# Altium schematic symbol library Relay.SchLib: 6 symbols
Pins are listed as number, name and electrical type; pins without a type are passive.

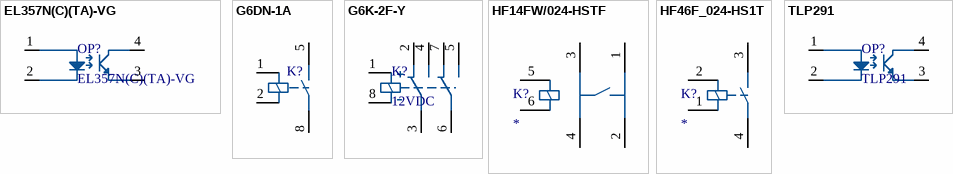
[diagram p0: symbols EL357N(C)(TA)-VG to TLP291]

## EL357N(C)(TA)-VG
designator OP?
No Description Available; Mfr_Name: Everlight; RefDes: RefDes; Type: Type
footprint SOP-4-2.54mm
pins: 1 6, 2 7, 3 8, 4 9

## G6DN-1A
designator K?, comment G6DN-1A-SL-12VDC  (value not drawn)
Generic Relay; Type: G6DN-1A-SL-12VDC
footprint G6DN-1A-SL
pins: 1 COIL+, 2 COIL-, 5 CONT, 8 COM

## G6K-2F-Y
designator K?, comment 12VDC
Signal Relay; Voltage: 12VDC
footprint G6K-2F-Y
pins: 1 COIL+, 2 NC1, 3 COM1, 4 NO1, 5 NO2, 6 COM2, 7 NC2, 8 COIL-

## HF14FW/024-HSTF
designator K?
Relay or Contactor; Manufacturer_Name: Hongfa; Manufacturer_Part_Number: HF14FW/024-HSTF; Datasheet Link: https://docs.rs-online.com/d608/0900766b81663c99.pdf; Height: 26.5mm
footprint HF14FW005HPTF
footprint HF14FW005HPTF
pins: 1 NO_1, 2 NO_2, 3 COM_1, 4 COM_2, 5 COIL_1, 6 COIL_2

## HF46F_024-HS1T
designator K?
Relay or Contactor; Manufacturer_Name: Hongfa; Manufacturer_Part_Number: HF46F/024-HS1T; Datasheet Link: https://www.tme.com/Document/c87786c546bba5bb9984c9460ff2ec46/HF46F_en.pdf; Height: 15.6mm
footprint HF46F024HS1T
pins: 1 COIL_1, 2 COIL_2, 3 NO, 4 COM

## TLP291
designator OP?
TL291_Optocoupler
footprint SOIC127P700X210-4N (SOIC, 4-Leads, Body 2.60x4.55mm, Pitch 1.27mm, IPC Medium Density)
pins: 1 6, 2 7, 3 8, 4 9